# EAGLE library part LM2766 (library national-semiconductor)
Switched Capacitor Voltage Converter Manufacturer: http://cache.national.com Source: http://www.national.com/ds/LM/LM2766.pdf
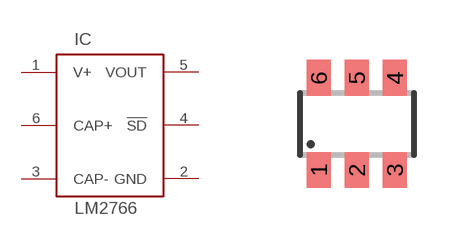
[diagram p1: symbol with the pads of SOT23-6; footprint SOT23-6]

Designator prefix IC

## LM2766  [SOT23-6]
1  V+  pwr
2  GND  pwr
3  CAP-  in
4  !SD
5  VOUT  oc
6  CAP+  in

## Footprint SOT23-6 (pad centres in mm)
Small Outline Transistor 6 lead
smd 0.6 x 0.9: 1 -0.95,-1.15; 2 0,-1.15; 3 0.95,-1.15; 4 0.95,1.15; 5 0,1.15; 6 -0.95,1.15